# Altium footprint library Cap6800u.PcbLib: 1 footprints
Each footprint in its own frame and in the unit in brackets; x right, y up, seen from the top. Pads: shape width x height; smd on the part's side, far side on the other; paste and mask are expansions set on the pad; w line width, h text height; cw(c..) or ccw(c..) is an arc to the next point about the centre after c.
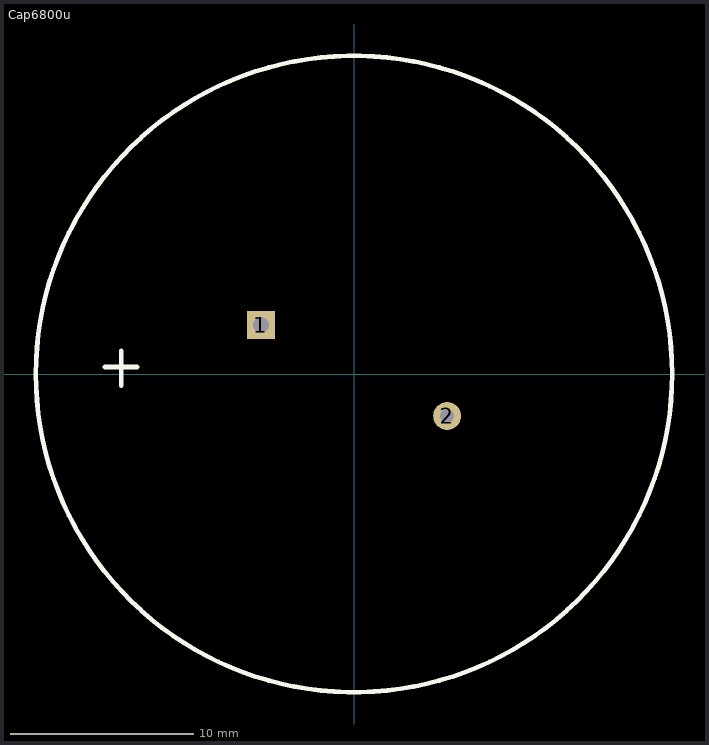
[diagram p0: the footprint, top view; thin cyan lines are the x and y axes]

## Cap6800u [mil]
pads (2):
  rect 60x60 hole 34: 1(-200,105)
  round 60 hole 30: 2(200,-90)
Top Overlay:
  circle w10: c0,0 r683.1
  lines w10: -535,15 -465,15 ; -500,-25 -500,50